# EAGLE library part TMS320C6713B (library ti6713Bpyp)
TMS320C6713B DSP
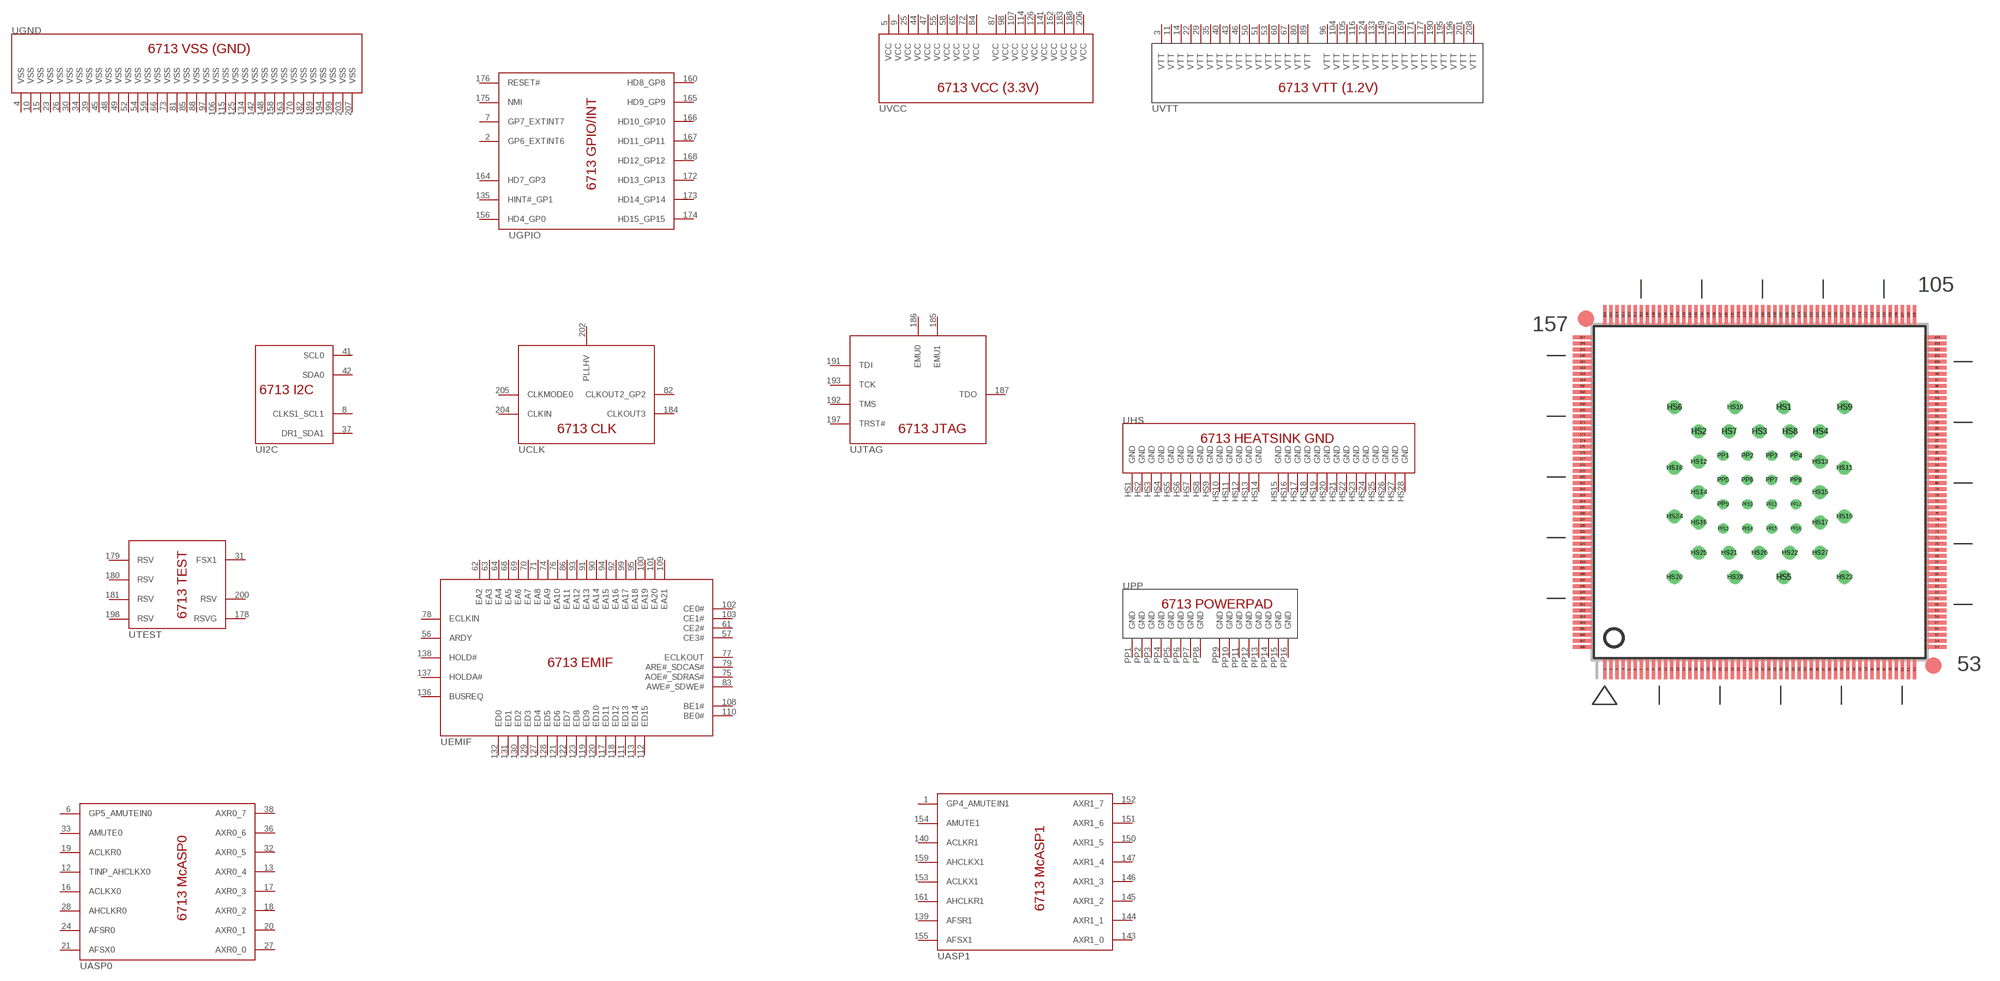
[diagram p0: symbol with the pads of SQFP208; footprint SQFP208]

Designator prefix U; gates CLK=6713CLK GPIO=6713GP I2C=6713I2C JTAG=6713JTAG ASP0=6713MCASP0 ASP1=6713MCASP1 VCC=6713VCC VTT=6713VTT GND=6713VSS EMIF=6713EMIF TEST=6713TEST HS=6713HSGND PP=6713PPGND

## TMS320C6713BPYP  [SQFP208]
1  ASP1:GP4_AMUTEIN1
2  GPIO:GP6_EXTINT6
3  VTT:VTT  pwr
4  GND:VSS  pwr
5  VCC:VCC  pwr
6  ASP0:GP5_AMUTEIN0
7  GPIO:GP7_EXTINT7
8  I2C:CLKS1_SCL1  in
9  VCC:VCC  pwr
10  GND:VSS  pwr
11  VTT:VTT  pwr
12  ASP0:TINP_AHCLKX0
13  ASP0:AXR0_4
14  VTT:VTT  pwr
15  GND:VSS  pwr
16  ASP0:ACLKX0
17  ASP0:AXR0_3
18  ASP0:AXR0_2
19  ASP0:ACLKR0
20  ASP0:AXR0_1
21  ASP0:AFSX0
22  VTT:VTT  pwr
23  GND:VSS  pwr
24  ASP0:AFSR0
25  VCC:VCC  pwr
26  GND:VSS  pwr
27  ASP0:AXR0_0
28  ASP0:AHCLKR0
29  VTT:VTT  pwr
30  GND:VSS  pwr
31  TEST:FSX1
32  ASP0:AXR0_5
33  ASP0:AMUTE0  out
34  GND:VSS  pwr
35  VTT:VTT  pwr
36  ASP0:AXR0_6
37  I2C:DR1_SDA1  in
38  ASP0:AXR0_7
39  GND:VSS  pwr
40  VTT:VTT  pwr
41  I2C:SCL0  in
42  I2C:SDA0  in
43  VTT:VTT  pwr
44  VCC:VCC  pwr
45  GND:VSS  pwr
46  VTT:VTT  pwr
47  VCC:VCC  pwr
48  GND:VSS  pwr
49  GND:VSS  pwr
50  VTT:VTT  pwr
51  VTT:VTT  pwr
52  GND:VSS  pwr
53  VTT:VTT  pwr
54  GND:VSS  pwr
55  VCC:VCC  pwr
56  EMIF:ARDY  in
57  EMIF:CE3#  out
58  VCC:VCC  pwr
59  GND:VSS  pwr
60  VTT:VTT  pwr
61  EMIF:CE2#  out
62  EMIF:EA2  out
63  EMIF:EA3  out
64  EMIF:EA4  out
65  VCC:VCC  pwr
66  GND:VSS  pwr
67  VTT:VTT  pwr
68  EMIF:EA5  out
69  EMIF:EA6  out
70  EMIF:EA7  out
71  EMIF:EA8  out
72  VCC:VCC  pwr
73  GND:VSS  pwr
74  EMIF:EA9  out
75  EMIF:AOE#_SDRAS#  out
76  EMIF:EA10  out
77  EMIF:ECLKOUT  out
78  EMIF:ECLKIN  in
79  EMIF:ARE#_SDCAS#  out
80  VTT:VTT  pwr
81  GND:VSS  pwr
82  CLK:CLKOUT2_GP2
83  EMIF:AWE#_SDWE#  out
84  VCC:VCC  pwr
85  GND:VSS  pwr
86  EMIF:EA11  out
87  VCC:VCC  pwr
88  GND:VSS  pwr
89  VTT:VTT  pwr
90  EMIF:EA14  out
91  EMIF:EA13  out
92  EMIF:EA16  out
93  EMIF:EA12  out
94  EMIF:EA15  out
95  EMIF:EA18  out
96  VTT:VTT  pwr
97  GND:VSS  pwr
98  VCC:VCC  pwr
99  EMIF:EA17  out
100  EMIF:EA19  out
101  EMIF:EA20  out
102  EMIF:CE0#  out
103  EMIF:CE1#  out
104  VTT:VTT  pwr
105  VTT:VTT  pwr
106  GND:VSS  pwr
107  VCC:VCC  pwr
108  EMIF:BE1#  out
109  EMIF:EA21  out
110  EMIF:BE0#  out
111  EMIF:ED13
112  EMIF:ED15
113  EMIF:ED14
114  VCC:VCC  pwr
115  GND:VSS  pwr
116  VTT:VTT  pwr
117  EMIF:ED11
118  EMIF:ED12
119  EMIF:ED9
120  EMIF:ED10
121  EMIF:ED6
122  EMIF:ED7
123  EMIF:ED8
124  VTT:VTT  pwr
125  GND:VSS  pwr
126  VCC:VCC  pwr
127  EMIF:ED4
128  EMIF:ED5
129  EMIF:ED3
130  EMIF:ED2
131  EMIF:ED1
132  EMIF:ED0
133  VTT:VTT  pwr
134  GND:VSS  pwr
135  GPIO:HINT#_GP1
136  EMIF:BUSREQ  out
137  EMIF:HOLDA#  out
138  EMIF:HOLD#  in
139  ASP1:AFSR1
140  ASP1:ACLKR1
141  VCC:VCC  pwr
142  GND:VSS  pwr
143  ASP1:AXR1_0
144  ASP1:AXR1_1
145  ASP1:AXR1_2
146  ASP1:AXR1_3
147  ASP1:AXR1_4
148  GND:VSS  pwr
149  VTT:VTT  pwr
150  ASP1:AXR1_5
151  ASP1:AXR1_6
152  ASP1:AXR1_7
153  ASP1:ACLKX1
154  ASP1:AMUTE1  out
155  ASP1:AFSX1
156  GPIO:HD4_GP0
157  VTT:VTT  pwr
158  GND:VSS  pwr
159  ASP1:AHCLKX1
160  GPIO:HD8_GP8
161  ASP1:AHCLKR1
162  VCC:VCC  pwr
163  GND:VSS  pwr
164  GPIO:HD7_GP3
165  GPIO:HD9_GP9
166  GPIO:HD10_GP10
167  GPIO:HD11_GP11
168  GPIO:HD12_GP12
169  VTT:VTT  pwr
170  GND:VSS  pwr
171  VTT:VTT  pwr
172  GPIO:HD13_GP13
173  GPIO:HD14_GP14
174  GPIO:HD15_GP15
175  GPIO:NMI  in
176  GPIO:RESET#  in
177  VTT:VTT  pwr
178  TEST:RSVG  in
179  TEST:RSV
180  TEST:RSV
181  TEST:RSV
182  GND:VSS  pwr
183  VCC:VCC  pwr
184  CLK:CLKOUT3  out
185  JTAG:EMU1
186  JTAG:EMU0
187  JTAG:TDO  out
188  VCC:VCC  pwr
189  GND:VSS  pwr
190  VTT:VTT  pwr
191  JTAG:TDI  in
192  JTAG:TMS  in
193  JTAG:TCK  in
194  GND:VSS  pwr
195  VTT:VTT  pwr
196  VTT:VTT  pwr
197  JTAG:TRST#  in
198  TEST:RSV
199  GND:VSS  pwr
200  TEST:RSV
201  VTT:VTT  pwr
202  CLK:PLLHV  pwr
203  GND:VSS  pwr
204  CLK:CLKIN  in
205  CLK:CLKMODE0  pas
206  VCC:VCC  pwr
207  GND:VSS  pwr
208  VTT:VTT  pwr
HS1  HS:GND  pwr
HS2  HS:GND  pwr
HS3  HS:GND  pwr
HS4  HS:GND  pwr
HS5  HS:GND  pwr
HS6  HS:GND  pwr
HS7  HS:GND  pwr
HS8  HS:GND  pwr
HS9  HS:GND  pwr
HS10  HS:GND  pwr
HS11  HS:GND  pwr
HS12  HS:GND  pwr
HS13  HS:GND  pwr
HS14  HS:GND  pwr
HS15  HS:GND  pwr
HS16  HS:GND  pwr
HS17  HS:GND  pwr
HS18  HS:GND  pwr
HS19  HS:GND  pwr
HS20  HS:GND  pwr
HS21  HS:GND  pwr
HS22  HS:GND  pwr
HS23  HS:GND  pwr
HS24  HS:GND  pwr
HS25  HS:GND  pwr
HS26  HS:GND  pwr
HS27  HS:GND  pwr
HS28  HS:GND  pwr
PP1  PP:GND  pwr
PP2  PP:GND  pwr
PP3  PP:GND  pwr
PP4  PP:GND  pwr
PP5  PP:GND  pwr
PP6  PP:GND  pwr
PP7  PP:GND  pwr
PP8  PP:GND  pwr
PP9  PP:GND  pwr
PP10  PP:GND  pwr
PP11  PP:GND  pwr
PP12  PP:GND  pwr
PP13  PP:GND  pwr
PP14  PP:GND  pwr
PP15  PP:GND  pwr
PP16  PP:GND  pwr

## Footprint SQFP208 (pad centres in mm)
SQFP 208 Pin w/PowerPAD
smd 0.28 x 1.6: 1 -12.75,-14.6; 2 -12.25,-14.6; 3 -11.75,-14.6; 4 -11.25,-14.6; 5 -10.75,-14.6; 6 -10.25,-14.6; 7 -9.75,-14.6; 8 -9.25,-14.6; 9 -8.75,-14.6; 10 -8.25,-14.6; 11 -7.75,-14.6; 12 -7.25,-14.6; 13 -6.75,-14.6; 14 -6.25,-14.6; 15 -5.75,-14.6; 16 -5.25,-14.6; 17 -4.75,-14.6; 18 -4.25,-14.6; 19 -3.75,-14.6; 20 -3.25,-14.6; 21 -2.75,-14.6; 22 -2.25,-14.6; 23 -1.75,-14.6; 24 -1.25,-14.6; 25 -0.75,-14.6; 26 -0.25,-14.6; 27 0.25,-14.6; 28 0.75,-14.6; 29 1.25,-14.6; 30 1.75,-14.6; 31 2.25,-14.6; 32 2.75,-14.6; 33 3.25,-14.6; 34 3.75,-14.6; 35 4.25,-14.6; 36 4.75,-14.6; 37 5.25,-14.6; 38 5.75,-14.6; 39 6.25,-14.6; 40 6.75,-14.6; 41 7.25,-14.6; 42 7.75,-14.6; 43 8.25,-14.6; 44 8.75,-14.6; 45 9.25,-14.6; 46 9.75,-14.6; 47 10.25,-14.6; 48 10.75,-14.6; 49 11.25,-14.6; 50 11.75,-14.6; 51 12.25,-14.6; 52 12.75,-14.6; 105 12.75,14.6; 106 12.25,14.6; 107 11.75,14.6; 108 11.25,14.6; 109 10.75,14.6; 110 10.25,14.6; 111 9.75,14.6; 112 9.25,14.6; 113 8.75,14.6; 114 8.25,14.6; 115 7.75,14.6; 116 7.25,14.6; 117 6.75,14.6; 118 6.25,14.6; 119 5.75,14.6; 120 5.25,14.6; 121 4.75,14.6; 122 4.25,14.6; 123 3.75,14.6; 124 3.25,14.6; 125 2.75,14.6; 126 2.25,14.6; 127 1.75,14.6; 128 1.25,14.6; 129 0.75,14.6; 130 0.25,14.6; 131 -0.25,14.6; 132 -0.75,14.6; 133 -1.25,14.6; 134 -1.75,14.6; 135 -2.25,14.6; 136 -2.75,14.6; 137 -3.25,14.6; 138 -3.75,14.6; 139 -4.25,14.6; 140 -4.75,14.6; 141 -5.25,14.6; 142 -5.75,14.6; 143 -6.25,14.6; 144 -6.75,14.6; 145 -7.25,14.6; 146 -7.75,14.6; 147 -8.25,14.6; 148 -8.75,14.6; 149 -9.25,14.6; 150 -9.75,14.6; 151 -10.25,14.6; 152 -10.75,14.6; 153 -11.25,14.6; 154 -11.75,14.6; 155 -12.25,14.6; 156 -12.75,14.6
smd 1.6 x 0.28: 53 14.6,-12.75; 54 14.6,-12.25; 55 14.6,-11.75; 56 14.6,-11.25; 57 14.6,-10.75; 58 14.6,-10.25; 59 14.6,-9.75; 60 14.6,-9.25; 61 14.6,-8.75; 62 14.6,-8.25; 63 14.6,-7.75; 64 14.6,-7.25; 65 14.6,-6.75; 66 14.6,-6.25; 67 14.6,-5.75; 68 14.6,-5.25; 69 14.6,-4.75; 70 14.6,-4.25; 71 14.6,-3.75; 72 14.6,-3.25; 73 14.6,-2.75; 74 14.6,-2.25; 75 14.6,-1.75; 76 14.6,-1.25; 77 14.6,-0.75; 78 14.6,-0.25; 79 14.6,0.25; 80 14.6,0.75; 81 14.6,1.25; 82 14.6,1.75; 83 14.6,2.25; 84 14.6,2.75; 85 14.6,3.25; 86 14.6,3.75; 87 14.6,4.25; 88 14.6,4.75; 89 14.6,5.25; 90 14.6,5.75; 91 14.6,6.25; 92 14.6,6.75; 93 14.6,7.25; 94 14.6,7.75; 95 14.6,8.25; 96 14.6,8.75; 97 14.6,9.25; 98 14.6,9.75; 99 14.6,10.25; 100 14.6,10.75; 101 14.6,11.25; 102 14.6,11.75; 103 14.6,12.25; 104 14.6,12.75; 157 -14.6,12.75; 158 -14.6,12.25; 159 -14.6,11.75; 160 -14.6,11.25; 161 -14.6,10.75; 162 -14.6,10.25; 163 -14.6,9.75; 164 -14.6,9.25; 165 -14.6,8.75; 166 -14.6,8.25; 167 -14.6,7.75; 168 -14.6,7.25; 169 -14.6,6.75; 170 -14.6,6.25; 171 -14.6,5.75; 172 -14.6,5.25; 173 -14.6,4.75; 174 -14.6,4.25; 175 -14.6,3.75; 176 -14.6,3.25; 177 -14.6,2.75; 178 -14.6,2.25; 179 -14.6,1.75; 180 -14.6,1.25; 181 -14.6,0.75; 182 -14.6,0.25; 183 -14.6,-0.25; 184 -14.6,-0.75; 185 -14.6,-1.25; 186 -14.6,-1.75; 187 -14.6,-2.25; 188 -14.6,-2.75; 189 -14.6,-3.25; 190 -14.6,-3.75; 191 -14.6,-4.25; 192 -14.6,-4.75; 193 -14.6,-5.25; 194 -14.6,-5.75; 195 -14.6,-6.25; 196 -14.6,-6.75; 197 -14.6,-7.25; 198 -14.6,-7.75; 199 -14.6,-8.25; 200 -14.6,-8.75; 201 -14.6,-9.25; 202 -14.6,-9.75; 203 -14.6,-10.25; 204 -14.6,-10.75; 205 -14.6,-11.25; 206 -14.6,-11.75; 207 -14.6,-12.25; 208 -14.6,-12.75
drill 0.61 round: HS1 2,7; HS2 -5,5; HS3 0,5; HS4 5,5; HS5 2,-7; HS6 -7,7; HS7 -2.5,5; HS8 2.5,5; HS9 7,7; HS10 -2,7; HS11 7,2; HS12 -5,2.5; HS13 5,2.5; HS14 -5,0; HS15 5,0; HS16 -5,-2.5; HS17 5,-2.5; HS18 -7,2; HS19 7,-2; HS20 -7,-7; HS21 -2.5,-5; HS22 2.5,-5; HS23 7,-7; HS24 -7,-2; HS25 -5,-5; HS26 0,-5; HS27 5,-5; HS28 -2,-7
drill 0.33 round: PP1 -3,3; PP2 -1,3; PP3 1,3; PP4 3,3; PP5 -3,1; PP6 -1,1; PP7 1,1; PP8 3,1; PP9 -3,-1; PP10 -1,-1; PP11 1,-1; PP12 3,-1; PP13 -3,-3; PP14 -1,-3; PP15 1,-3; PP16 3,-3